# EAGLE library part DRV8833 (library alvie)
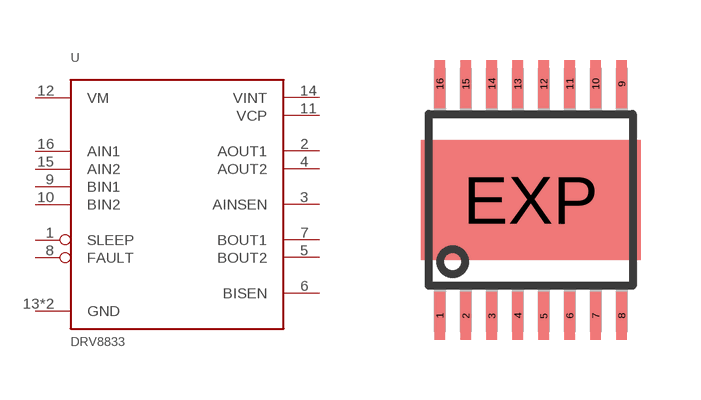
[diagram p56: symbol with the pads of HTSSOP16-PWP; footprint HTSSOP16-PWP]

Designator prefix -

## DRV8833PWP  [HTSSOP16-PWP]
1  SLEEP  in
2  AOUT1  pas
3  AINSEN  pas
4  AOUT2  pas
5  BOUT2  pas
6  BISEN  pas
7  BOUT1  pas
8  FAULT  out
9  BIN1  in
10  BIN2  in
11  VCP  pwr
12  VM  pwr
13  GND  pwr
14  VINT  pwr
15  AIN2  in
16  AIN1  in
EXP  GND  pwr

## Footprint HTSSOP16-PWP (pad centres in mm)
smd 0.27 x 1.2: 1 -2.275,-2.9; 2 -1.625,-2.9; 3 -0.975,-2.9; 4 -0.325,-2.9; 5 0.325,-2.9; 6 0.975,-2.9; 7 1.625,-2.9; 8 2.275,-2.9; 9 2.275,2.9; 10 1.625,2.9; 11 0.975,2.9; 12 0.325,2.9; 13 -0.325,2.9; 14 -0.975,2.9; 15 -1.625,2.9; 16 -2.275,2.9
smd 5.5 x 3: EXP 0,0